# Altium schematic symbol library SCH - DIGITAL ISOLATOR - CHIPANAlOG CA-IS3721HS.SCHLIB: 1 symbol
Pins are listed as number, name and electrical type; pins without a type are passive.

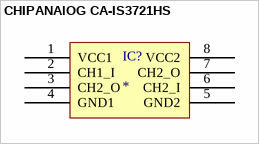
[diagram p0: symbol CHIPANAlOG CA-IS3721HS]

## CHIPANAlOG CA-IS3721HS
designator IC?
pins: 1 VCC1, 2 CH1_I, 3 CH2_O, 4 GND1, 5 GND2, 6 CH2_I, 7 CH2_O, 8 VCC2